# Altium footprint library Inductors.PcbLib: 50 footprints (part 4 of 4)
Each footprint in its own frame and in the unit in brackets; x right, y up, seen from the top. Pads: shape width x height; smd on the part's side, far side on the other; paste and mask are expansions set on the pad; w line width, h text height; cw(c..) or ccw(c..) is an arc to the next point about the centre after c.
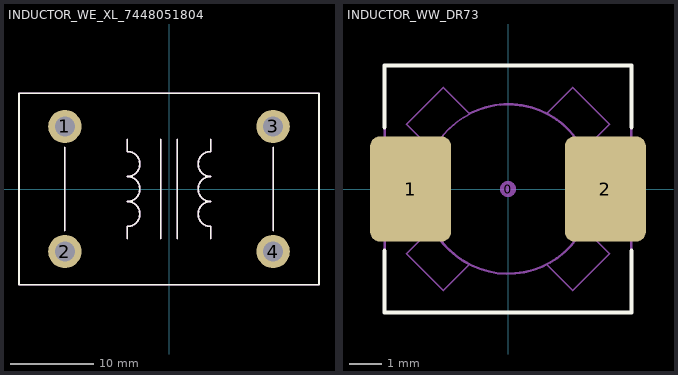
[diagram p3: the footprints below, top view; thin cyan lines are the x and y axes]

## INDUCTOR_WE_XL_7448051804 [mm]
pads (4):
  round 4 hole 2.4: 1(-12.5,7.5) 2(-12.5,-7.5) 3(12.5,7.5) 4(12.5,-7.5)
Top Overlay:
  lines w0.2: -12.5,-5 -12.5,5 ; -5,-5.95 -5,-4.5 ccw(c-5,-3) -5,-1.5 ccw(c-5,0) -5,1.5 ccw(c-5,3) -5,4.5 -5,5.95 ; -1,-5.95 -1,5.95 ; 1,-5.95 1,5.95 ; 5,-5.95 5,-4.5 cw(c5,-3) 5,-1.5 cw(c5,0) 5,1.5 cw(c5,3) 5,4.5 5,5.95 ; 12.5,-5 12.5,5 ; -18,-11.5 18,-11.5 18,11.5 -18,11.5 -18,-11.5
Mechanical 8:
  lines w0.2: -12.5,-5 -12.5,5 ; -5,-5.95 -5,-4.5 ccw(c-5,-3) -5,-1.5 ccw(c-5,0) -5,1.5 ccw(c-5,3) -5,4.5 -5,5.95 ; -1,-5.95 -1,5.95 ; 1,-5.95 1,5.95 ; 5,-5.95 5,-4.5 cw(c5,-3) 5,-1.5 cw(c5,0) 5,1.5 cw(c5,3) 5,4.5 5,5.95 ; 12.5,-5 12.5,5 ; -18,-11.5 -18,11.5 18,11.5 18,-11.5 -18,-11.5
  text ".Designator" at -6.05,7.55 h5
3D body "commode_WE7448051804.stp": height 31.09, standoff -4.9, extent -16.07,-10.3 16.069,10.3

## INDUCTOR_WW_DR73 [mm] "Wire-wound power inductor, Cooper Bussmann DR73 series, IPC Medium Density"
height 3.55
pads (3):
  round 0.5 on Mech15: 0(0,0)
  rrect25% 2.5x3.25 smd: 1(-3,0) 2(3,0)
Top Overlay:
  lines w0.127: -3.81,-1.905 -3.81,-3.81 3.81,-3.81 3.81,-1.905 ; -3.81,1.905 -3.81,3.81 3.81,3.81 3.81,1.905
Mechanical 13:
  circle w0.05: c0,0 r2.6
  lines w0.05: -2.574,-0.515 -2.574,-0.367 ; -2.574,0.367 -2.574,0.515 ; -2.346,-1.178 -2.346,-1.121 ; -2.346,1.121 -2.346,1.178 ; -2.273,-1.263 -2.334,-1.202 -3.129,-1.998 -1.998,-3.129 -1.202,-2.334 ; -2.273,1.263 -2.334,1.202 ; -2.202,-1.429 -2.184,-1.411 ; -2.202,1.429 -2.184,1.411 ; -1.429,-2.202 -1.411,-2.184 ; -1.263,-2.273 -1.202,-2.334 ; -1.197,-2.308 -1.202,-2.334 ; -0.237,2.589 -0.232,2.615 ; 0.232,-2.615 0.237,-2.589 ; 1.197,2.308 1.202,2.334 ; 1.202,-2.334 1.998,-3.129 3.129,-1.998 2.334,-1.202 2.273,-1.263 ; 1.263,2.273 1.202,2.334 ; 1.411,2.184 1.429,2.202 ; 2.184,-1.411 2.202,-1.429 ; 2.184,1.411 2.202,1.429 ; 2.273,1.263 2.334,1.202 3.129,1.998 1.998,3.129 1.202,2.334 ; 2.574,-0.515 2.574,-0.367 ; 2.574,0.367 2.574,0.515 ; -2.334,1.202 ccw(c0,0) -1.202,2.334 -1.998,3.129 -3.129,1.998 -2.334,1.202 ; -3.8,-3.8 -3.8,3.8 3.8,3.8 3.8,-3.8 -3.8,-3.8
Mechanical 15:
  lines w0.076: -3.8,-3.8 3.8,-3.8 3.8,3.8 -3.8,3.8 -3.8,-3.8
3D body "Cooper Bussman DR73 Series Inductor.STEP": height 3.55, standoff 0, extent -3.8,-3.8 3.8,3.8